# Altium footprint library nxp_sot669.PCBLIB: 1 footprints
Each footprint in its own frame and in the unit in brackets; x right, y up, seen from the top. Pads: shape width x height; smd on the part's side, far side on the other; paste and mask are expansions set on the pad; w line width, h text height; cw(c..) or ccw(c..) is an arc to the next point about the centre after c.
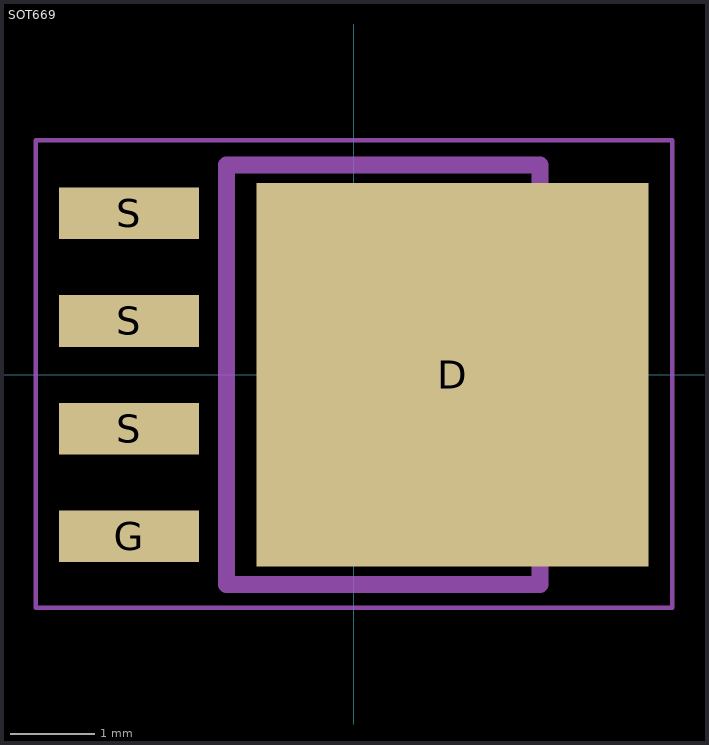
[diagram p0: the footprint, top view; thin cyan lines are the x and y axes]

## SOT669 [mil]
height 39.37
pads (5):
  rect 182x178 smd: D(46,0)
  rect 65x24 smd: G(-104.33,-75) S(-104.33,-25) S(-104.33,25) S(-104.33,75)
Top Paste:
  region: 0,0 10,0 10,10 0,10
  region: 0,0 10,0 10,10 0,10
  region: 0,0 10,0 10,10 0,10
  region: 0,0 10,0 10,10 0,10
Mechanical 16:
  lines w7.87: -59.06,-97.44 86.61,-97.44 86.61,-79.02 98,-79.02 119,-55.67 119,56 98,80 86.61,80 86.61,97.44 -59.06,97.44 -59.06,-97.44
Mechanical 27:
  circle w2: c0,0 r14
  lines w2: -19.68,0 20,0 ; 0,-19.68 0,20 ; -147.64,-108.27 148,-108.27 148,109 -147.64,109 -147.64,-108.27
3D body: height 42.91, standoff -0.39, extent -124.99,-99.41 134.85,97.44